# Altium schematic symbol library Diodes-1N5819W.SchLib: 1 symbol
Pins are listed as number, name and electrical type; pins without a type are passive.

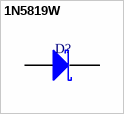
[diagram p0: symbol 1N5819W]

## 1N5819W
designator D?
pins: 1 A, 2 K